# EAGLE library part ESP32-C6-WROOM-1-N8 (library ESP32-C6-WROOM-1U)
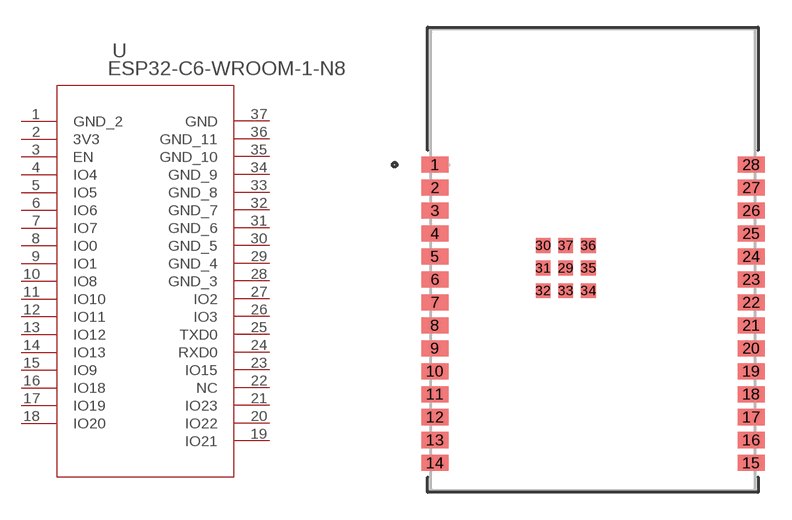
[diagram p0: symbol with the pads of MOD28_ESP32-C6-WROOM-1_EXP; footprint MOD28_ESP32-C6-WROOM-1_EXP]

Designator prefix U

## ESP32-C6-WROOM-1-N8 (COPYRIGHT: Copyright (C) 2023 Ultra Librarian. All rights reserved.; MANUFACTURER_PART_NUMBER: ESP32-C6-WROOM-1-N8; MFR_NAME: Espressif Systems; TYPE: RF)  [MOD28_ESP32-C6-WROOM-1_EXP]
1  GND_2  pas
2  3V3  pwr
3  EN  in
4  IO4
5  IO5
6  IO6
7  IO7
8  IO0
9  IO1
10  IO8
11  IO10
12  IO11
13  IO12
14  IO13
15  IO9
16  IO18
17  IO19
18  IO20
19  IO21
20  IO22
21  IO23
22  NC  nc
23  IO15
24  RXD0
25  TXD0
26  IO3
27  IO2
28  GND_3  pas
29  GND_4  pas
30  GND_5  pas
31  GND_6  pas
32  GND_7  pas
33  GND_8  pas
34  GND_9  pas
35  GND_10  pas
36  GND_11  pas
37  GND  pas

## Footprint MOD28_ESP32-C6-WROOM-1_EXP (pad centres in mm)
smd 1.499 x 0.889: 1 -8.75,5.26; 2 -8.75,3.99; 3 -8.75,2.72; 4 -8.75,1.45; 5 -8.75,0.18; 6 -8.75,-1.09; 7 -8.75,-2.36; 8 -8.75,-3.63; 9 -8.75,-4.9; 10 -8.75,-6.17; 11 -8.75,-7.44; 12 -8.75,-8.71; 13 -8.75,-9.98; 14 -8.75,-11.25; 15 8.75,-11.25; 16 8.75,-9.98; 17 8.75,-8.71; 18 8.75,-7.44; 19 8.75,-6.17; 20 8.75,-4.9; 21 8.75,-3.63; 22 8.75,-2.36; 23 8.75,-1.09; 24 8.75,0.18; 25 8.75,1.45; 26 8.75,2.72; 27 8.75,3.99; 28 8.75,5.26
smd 0.813 x 0.813: 29 -1.505,-0.46; 30 -2.755,0.79; 31 -2.755,-0.46; 32 -2.755,-1.71; 33 -1.505,-1.71; 34 -0.255,-1.71; 35 -0.255,-0.46; 36 -0.255,0.79; 37 -1.505,0.79